# EAGLE library part 2636-1105/0020-0000 (library con-wago_2636)
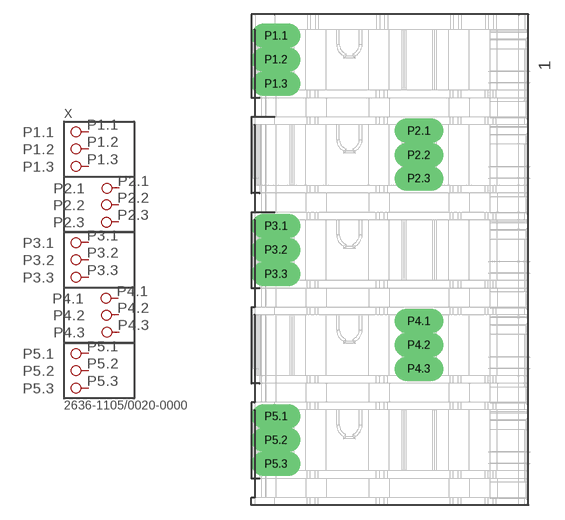
[diagram p4: symbol with the pads of P-2636-1105/0020-0000; footprint P-2636-1105/0020-0000]

Designator prefix X

## 2636-1105/0020-0000  [P-2636-1105/0020-0000]
P1.1  P1.1
P1.2  P1.2
P1.3  P1.3
P2.1  P2.1
P2.2  P2.2
P2.3  P2.3
P3.1  P3.1
P3.2  P3.2
P3.3  P3.3
P4.1  P4.1
P4.2  P4.2
P4.3  P4.3
P5.1  P5.1
P5.2  P5.2
P5.3  P5.3

## Footprint P-2636-1105/0020-0000 (pad centres in mm)
drill 1.7 pad 1.778 long: P1.1 -15,-0.65; P1.2 -15,-3.15; P1.3 -15,-5.7; P2.1 0,-10.65; P2.2 0,-13.2; P2.3 0,-15.65; P3.1 -15,-20.65; P3.2 -15,-23.15; P3.3 -15,-25.7; P4.1 0,-30.65; P4.2 0,-33.15; P4.3 0,-35.65; P5.1 -15,-40.65; P5.2 -15,-43.15; P5.3 -15,-45.65